# Altium schematic symbol library CONN-RM024-TH.Schlib: 1 symbol
Pins are listed as number, name and electrical type; pins without a type are passive.

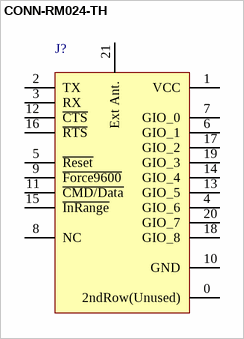
[diagram p0: symbol CONN-RM024-TH]

## CONN-RM024-TH
designator J?
Dual Connector, 20-Pin, Dual row
signal-integrity model Connector
pins: 0 2ndRow(Unused), 1 VCC, 2 TX, 3 RX, 4 GIO_6, 5 ~{Reset}, 6 GIO_1, 7 GIO_0, 8 NC, 9 ~{Force9600}, 10 GND, 11 ~{CMD/Data}, 12 ~{CTS}, 13 GIO_5, 14 GIO_4, 15 ~{InRange}, 16 ~{RTS}, 17 GIO_2, 18 GIO_8, 19 GIO_3, 20 GIO_7, 21 Ext Ant. "U.FL antenna connection on Radio Module"
1 alternate drawing of the same symbol